# Altium schematic symbol library complements.SchLib: 36 symbols
Pins are listed as number, name and electrical type; pins without a type are passive.

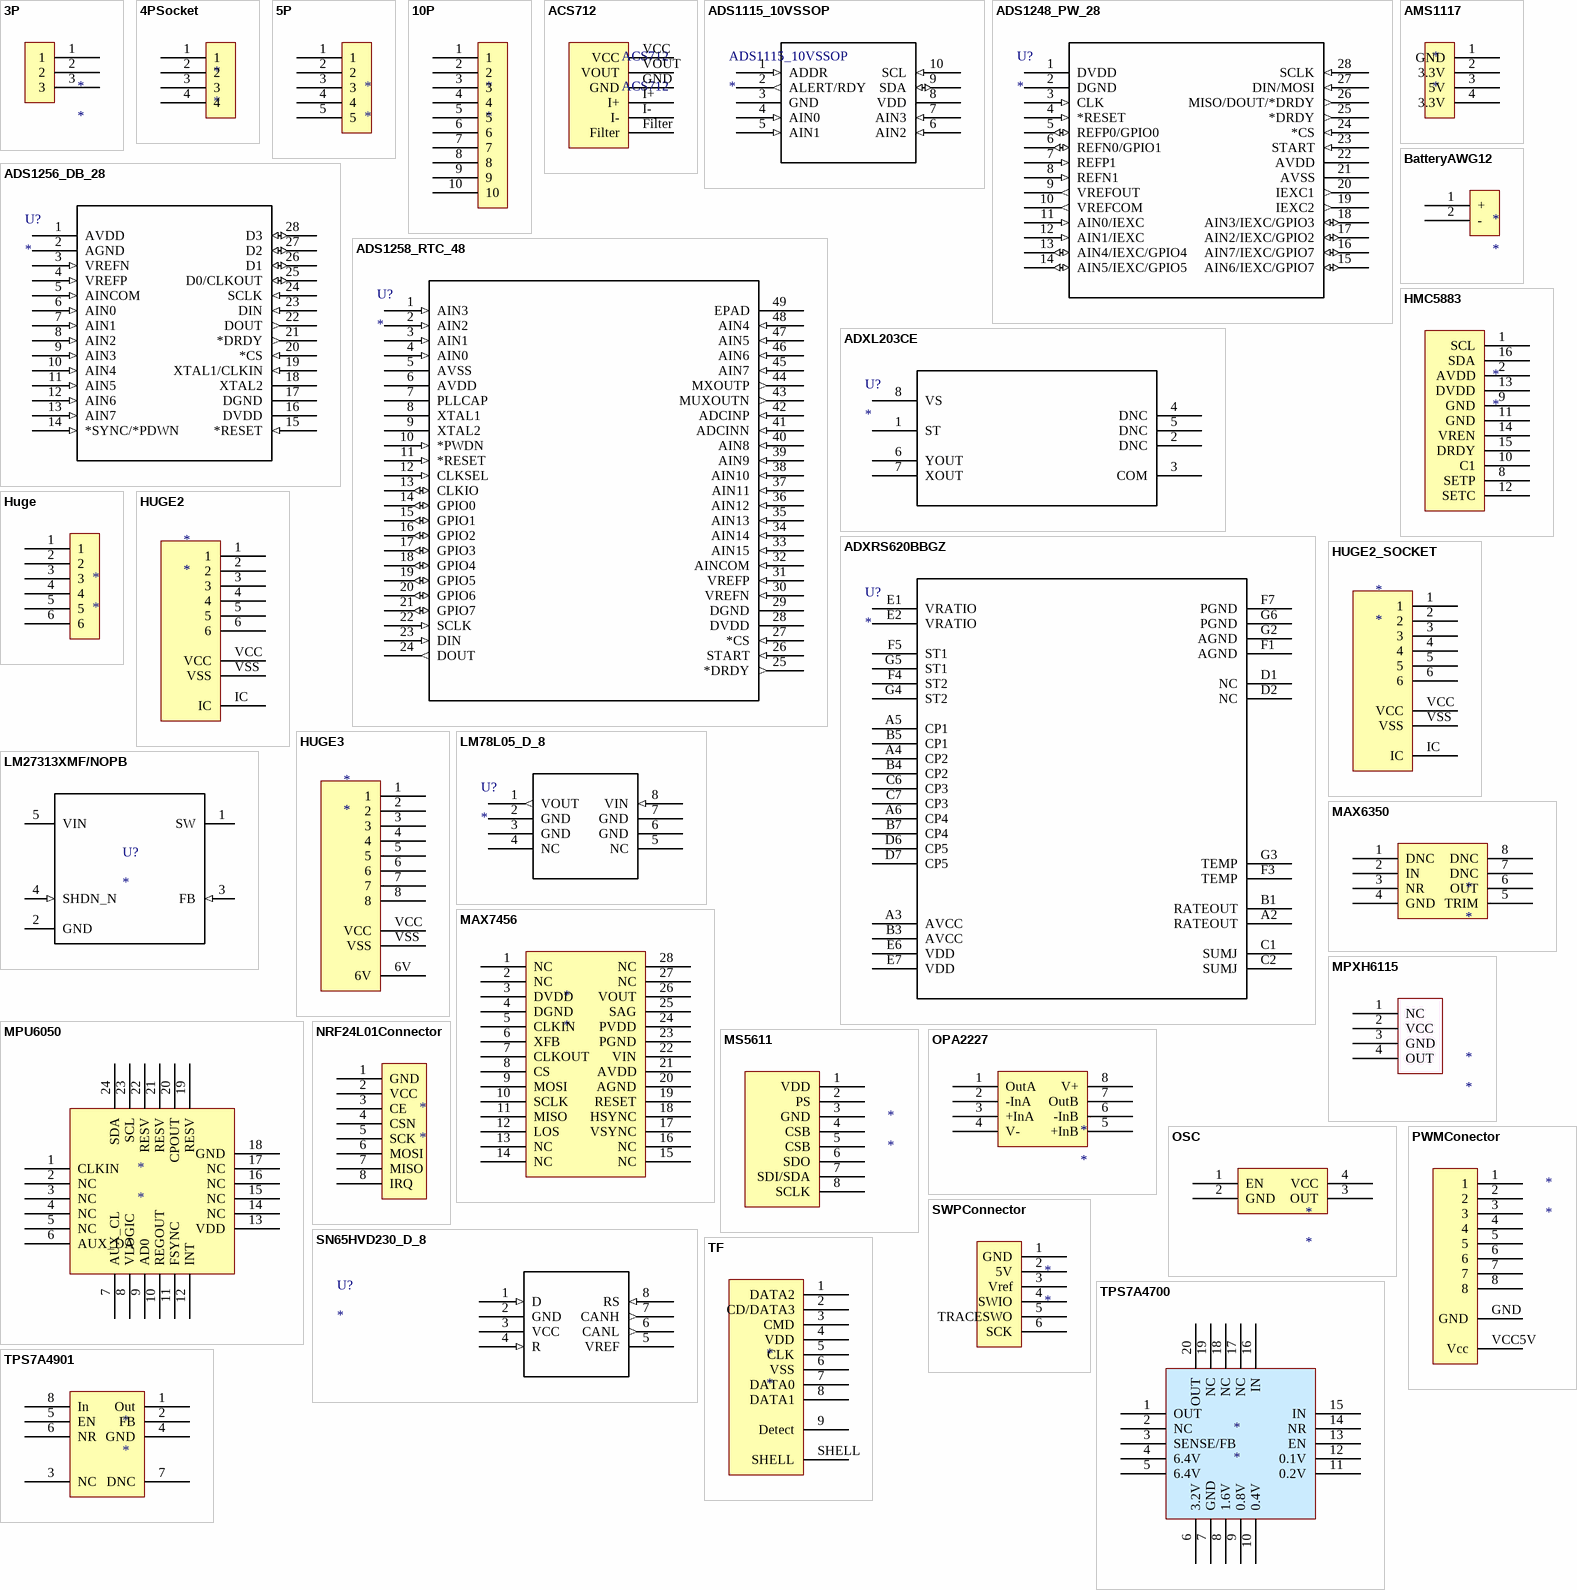
[diagram p0: symbols 3P to TPS7A4901]

## 3P
designator *
footprint 3P
pins: 1, 2, 3

## 4PSocket
designator *
footprint 4pSocket
footprint 4P
pins: 1, 2, 3, 4

## 5P
designator *
footprint 5P
pins: 1, 2, 3, 4, 5

## 10P
designator *
footprint 10P
pins: 1, 2, 3, 4, 5, 6, 7, 8, 9, 10

## ACS712
designator ACS712
footprint 8S2_N (8-Pin Small Outline Package 1.27 mm Pitch, IPC Medium Density); pin to pad Filter>6 GND>5 I+>1 I->3 VCC>8 VOUT>7
pins: Filter, GND, I+, I-, VCC, VOUT

## ADS1115_10VSSOP
designator ADS1115_10VSSOP
Manufacturer: Texas Instruments; GENERIC_PART_NUMBER: ADS1115; INDUSTRY_STD_PKG_TYPE: MSOP; FAMILY_NAME: PRECISION ADC (<=10MSPS); PIN_COUNT: 10; PACKAGE_DESIGNATOR: DGS; Datasheet URL: http://www.ti.com/lit/gpn/ADS1115; RefDes: RefDes; Type: DEV; Value: Value
footprint 10VSSOP
pins: 1 ADDR (in), 2 ALERT/RDY (out), 3 GND (power), 4 AIN0 (in), 5 AIN1 (in), 6 AIN2 (in), 7 AIN3 (in), 8 VDD (power), 9 SDA (io), 10 SCL (in)

## ADS1248_PW_28
designator U?
Imported; Manufacturer: Texas Instruments; GENERIC_PART_NUMBER: ADS1248; INDUSTRY_STD_PKG_TYPE: TSSOP; FAMILY_NAME: PRECISION ADC (<=10MSPS); PIN_COUNT: 28; PACKAGE_DESIGNATOR: PW; Datasheet URL: http://www.ti.com/lit/gpn/ADS1248; RefDes: RefDes; Type: DEV; Value: Value
footprint PW28
pins: 1 DVDD (power), 2 DGND (power), 3 CLK (in), 4 *RESET (in), 5 REFP0/GPIO0 (io), 6 REFN0/GPIO1 (io), 7 REFP1 (in), 8 REFN1 (in), 9 VREFOUT (out), 10 VREFCOM (out), 11 AIN0/IEXC (in), 12 AIN1/IEXC (in), 13 AIN4/IEXC/GPIO4 (io), 14 AIN5/IEXC/GPIO5 (io), 15 AIN6/IEXC/GPIO7 (io), 16 AIN7/IEXC/GPIO7 (io), 17 AIN2/IEXC/GPIO2 (io), 18 AIN3/IEXC/GPIO3 (io), 19 IEXC2 (out), 20 IEXC1 (out), 21 AVSS (power), 22 AVDD (power), 23 START (in), 24 *CS (in), 25 *DRDY (out), 26 MISO/DOUT/*DRDY (out), 27 DIN/MOSI (in), 28 SCLK (in)

## ADS1256_DB_28
designator U?
Imported; Manufacturer: Texas Instruments; GENERIC_PART_NUMBER: ADS1256; INDUSTRY_STD_PKG_TYPE: SSOP; FAMILY_NAME: PRECISION ADC (<=10MSPS); PIN_COUNT: 28; PACKAGE_DESIGNATOR: DB; Datasheet URL: http://www.ti.com/lit/gpn/ADS1256; RefDes: RefDes; Type: DEV; Value: Value
footprint DB28-L
pins: 1 AVDD (power), 2 AGND (power), 3 VREFN (in), 4 VREFP (in), 5 AINCOM (in), 6 AIN0 (in), 7 AIN1 (in), 8 AIN2 (in), 9 AIN3 (in), 10 AIN4 (in), 11 AIN5 (in), 12 AIN6 (in), 13 AIN7 (in), 14 *SYNC/*PDWN (in), 15 *RESET (in), 16 DVDD (power), 17 DGND (power), 18 XTAL2, 19 XTAL1/CLKIN (in), 20 *CS (in), 21 *DRDY (out), 22 DOUT (out), 23 DIN (in), 24 SCLK (in), 25 D0/CLKOUT (io), 26 D1 (io), 27 D2 (io), 28 D3 (io)

## ADS1258_RTC_48
designator U?
Imported; Manufacturer: Texas Instruments; GENERIC_PART_NUMBER: ADS1258; INDUSTRY_STD_PKG_TYPE: VQFN; FAMILY_NAME: PRECISION ADC (<=10MSPS); PIN_COUNT: 48; PACKAGE_DESIGNATOR: RTC; Datasheet URL: http://www.ti.com/lit/gpn/ADS1258; RefDes: RefDes; Type: DEV; Value: Value
footprint RTC48_5P1X5P1 - weak
pins: 1 AIN3 (in), 2 AIN2 (in), 3 AIN1 (in), 4 AIN0 (in), 5 AVSS (power), 6 AVDD (power), 7 PLLCAP, 8 XTAL1, 9 XTAL2, 10 *PWDN (in), 11 *RESET (in), 12 CLKSEL (in), 13 CLKIO (io), 14 GPIO0 (io), 15 GPIO1 (io), 16 GPIO2 (io), 17 GPIO3 (io), 18 GPIO4 (io), 19 GPIO5 (io), 20 GPIO6 (io), 21 GPIO7 (io), 22 SCLK (in), 23 DIN (in), 24 DOUT (out), 25 *DRDY (out), 26 START (in), 27 *CS (in), 28 DVDD (power), 29 DGND (power), 30 VREFN (in), 31 VREFP (in), 32 AINCOM (in), 33 AIN15 (in), 34 AIN14 (in), 35 AIN13 (in), 36 AIN12 (in), 37 AIN11 (in), 38 AIN10 (in), 39 AIN9 (in), 40 AIN8 (in), 41 ADCINN (in), 42 ADCINP (in), 43 MUXOUTN (out), 44 MXOUTP (out), 45 AIN7 (in), 46 AIN6 (in), 47 AIN5 (in), 48 AIN4 (in), 49 EPAD (power)

## ADXL203CE
designator U?
Imported; RefDes: RefDes; Type: DEV; Value: Value
footprint ADXL203
pins: 1 ST, 2 DNC, 3 COM, 4 DNC, 5 DNC, 6 YOUT, 7 XOUT, 8 VS

## ADXRS620BBGZ
designator U?
Imported; Manufacturer_Part_Number: ADXRS613BBGZ; Vendor: Vendor; RefDes: RefDes; Type: DEV; Value: Value
footprint BG_32_3
pins: A2 RATEOUT, A3 AVCC (power), A4 CP2, A5 CP1, A6 CP4, B1 RATEOUT, B3 AVCC (power), B4 CP2, B5 CP1, B7 CP4, C1 SUMJ, C2 SUMJ, C6 CP3, C7 CP3, D1 NC, D2 NC, D6 CP5, D7 CP5, E1 VRATIO (power), E2 VRATIO (power), E6 VDD (power), E7 VDD (power), F1 AGND, F3 TEMP, F4 ST2, F5 ST1, F7 PGND, G2 AGND, G3 TEMP, G4 ST2, G5 ST1, G6 PGND

## AMS1117
designator *
footprint SOT-223 (SOT-223/SC-73; 4 Leads; Body 6.7 x 7.3 mm, inc. leads (LxW max))
pins: 1 GND, 2 3.3V, 3 5V, 4 3.3V

## BatteryAWG12
designator *
footprint BG_32_3
pins: 1 +, 2 -

## HMC5883
designator *
footprint HMC5883
pins: 1 SCL, 2 AVDD, 8 SETP, 9 GND, 10 C1, 11 GND, 12 SETC, 13 DVDD, 14 VREN, 15 DRDY, 16 SDA

## Huge
designator *
footprint HUGE
pins: 1, 2, 3, 4, 5, 6

## HUGE2
designator *
footprint HUGE
pins: 1, 2, 3, 4, 5, 6, IC, VCC, VSS

## HUGE2_SOCKET
designator *
footprint HUGE - socket
pins: 1, 2, 3, 4, 5, 6, IC, VCC, VSS

## HUGE3
designator *
footprint BIG
pins: 1, 2, 3, 4, 5, 6, 6V, 7, 8, VCC, VSS

## LM78L05_D_8
designator U?
Imported; Manufacturer: Texas Instruments; Manufacturer_Part_Number: lm78l05_d_8; basePN: LM78L05; NSC_PackageReference: M08A; DatasheetURL: http://www.ti.com/lit/ds/symlink/lm78l05.pdf; Vendor: Texas Instruments; RefDes: RefDes; Type: DEV; Value: Value
footprint SOP8 (8-Pin Small Outline Package 1.27 mm Pitch, IPC Medium Density)
pins: 1 VOUT (out), 2 GND (power), 3 GND (power), 4 NC, 5 NC, 6 GND (power), 7 GND (power), 8 VIN (in)

## LM27313XMF/NOPB
designator U?
Imported; PartNumber: LM27313XMF/NOPB; Manufacturer: Texas Instruments; CompType: IC; PIN_COUNT: 5; PackageReference: DBV0005A; MountType: SMT; RoHS: Y; RefDes: RefDes; Type: DEV; Value: Value
footprint DBV0005A
pins: 1 SW (power), 2 GND (power), 3 FB (in), 4 SHDN_N (in), 5 VIN (power)

## MAX6350
designator *
footprint D8
pins: 1 DNC, 2 IN, 3 NR, 4 GND, 5 TRIM, 6 OUT, 7 DNC, 8 DNC

## MAX7456
designator *
footprint 28TSSOP
pins: 1 NC, 2 NC, 3 DVDD, 4 DGND, 5 CLKIN, 6 XFB, 7 CLKOUT, 8 CS, 9 MOSI, 10 SCLK, 11 MISO, 12 LOS, 13 NC, 14 NC, 15 NC, 16 NC, 17 VSYNC, 18 HSYNC, 19 RESET, 20 AGND, 21 AVDD, 22 VIN, 23 PGND, 24 PVDD, 25 SAG, 26 VOUT, 27 NC, 28 NC

## MPU6050
designator *
footprint MPU6050
pins: 1 CLKIN, 2 NC, 3 NC, 4 NC, 5 NC, 6 AUX_DA, 7 AUX_CL, 8 VLOGIC, 9 AD0, 10 REGOUT, 11 FSYNC, 12 INT, 13 VDD, 14 NC, 15 NC, 16 NC, 17 NC, 18 GND, 19 RESV, 20 CPOUT, 21 RESV, 22 RESV, 23 SCL, 24 SDA

## MPXH6115
designator *
footprint D8
pins: 1 NC, 2 VCC, 3 GND, 4 OUT

## MS5611
designator *
footprint MS5611
pins: 1 VDD, 2 PS, 3 GND, 4 CSB, 5 CSB, 6 SDO, 7 SDI/SDA, 8 SCLK

## NRF24L01Connector
designator *
footprint NRF24L01Pad
pins: 1 GND, 2 VCC, 3 CE, 4 CSN, 5 SCK, 6 MOSI, 7 MISO, 8 IRQ

## OPA2227
designator *
footprint D8
pins: 1 OutA, 2 -InA, 3 +InA, 4 V-, 5 +InB, 6 -InB, 7 OutB, 8 V+

## OSC
designator *
footprint XTAL3225 - 4p
footprint SMD4_5X32
pins: 1 EN, 2 GND, 3 OUT, 4 VCC

## PWMConector
designator *
footprint PWMConnector
pins: 1, 2, 3, 4, 5, 6, 7, 8, GND, VCC5V Vcc

## SN65HVD230_D_8
designator U?
Imported; Manufacturer: Texas Instruments; GENERIC_PART_NUMBER: SN65HVD230; Manufacturer_Part_Number: sn65hvd230_d_8; INDUSTRY_STD_PKG_TYPE: SOIC; FAMILY_NAME: CAN; PIN_COUNT: 8; PACKAGE_DESIGNATOR: D; Datasheet URL: http://www.ti.com/lit/gpn/SN65HVD230; Vendor: Texas Instruments; RefDes: RefDes; Type: DEV; Value: Value
footprint D8
pins: 1 D (in), 2 GND (power), 3 VCC (power), 4 R (in), 5 VREF (power), 6 CANL (out), 7 CANH (out), 8 RS (in)

## SWPConnector
designator *
pins: 1 GND, 2 5V, 3 Vref, 4 SWIO, 5 TRACESWO, 6 SCK

## TF
designator *
footprint TF
pins: 1 DATA2, 2 CD/DATA3, 3 CMD, 4 VDD, 5 CLK, 6 VSS, 7 DATA0, 8 DATA1, 9 Detect, SHELL

## TPS7A4700
designator *
footprint TPS7A4700
pins: 1 OUT, 2 NC, 3 SENSE/FB, 4 6.4V, 5 6.4V, 6 3.2V, 7 GND, 8 1.6V, 9 0.8V, 10 0.4V, 11 0.2V, 12 0.1V, 13 EN, 14 NR, 15 IN, 16 IN, 17 NC, 18 NC, 19 NC, 20 OUT

## TPS7A4901
designator *
footprint SOP8 (8-Pin Small Outline Package 1.27 mm Pitch, IPC Medium Density)
pins: 1 Out, 2 FB, 3 NC, 4 GND, 5 EN, 6 NR, 7 DNC, 8 In

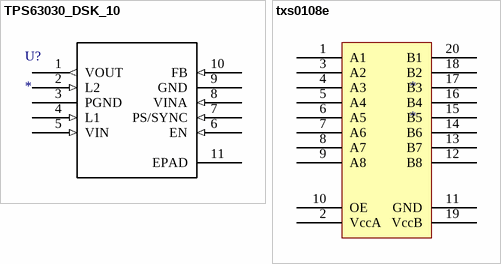
[diagram p1: symbols TPS63030_DSK_10 to txs0108e]

## TPS63030_DSK_10
designator U?
Imported; Manufacturer_Part_Number: tps63030_dsk_10; GENERIC_PART_NUMBER: TPS63030; Vendor: Texas Instruments; PACKAGE_DESIGNATOR: DSK; PIN_COUNT: 10; FAMILY_NAME: BUCK-BOOST REGULATOR; INDUSTRY_STD_PKG_TYPE: SON; Datasheet URL: http://www.ti.com/lit/gpn/TPS63030; Manufacturer: Texas Instruments; RefDes: RefDes; Type: DEV; Value: Value
footprint DSK10_2X1P2
pins: 1 VOUT (out), 2 L2 (in), 3 PGND (power), 4 L1 (in), 5 VIN (in), 6 EN (in), 7 PS/SYNC (in), 8 VINA (in), 9 GND (power), 10 FB (in), 11 EPAD

## txs0108e
designator *
footprint TSSOP20
pins: 1 A1, 2 VccA, 3 A2, 4 A3, 5 A4, 6 A5, 7 A6, 8 A7, 9 A8, 10 OE, 11 GND, 12 B8, 13 B7, 14 B6, 15 B5, 16 B4, 17 B3, 18 B2, 19 VccB, 20 B1